# Altium footprint library SOP.PcbLib: 10 footprints
Each footprint in its own frame and in the unit in brackets; x right, y up, seen from the top. Pads: shape width x height; smd on the part's side, far side on the other; paste and mask are expansions set on the pad; w line width, h text height; cw(c..) or ccw(c..) is an arc to the next point about the centre after c.
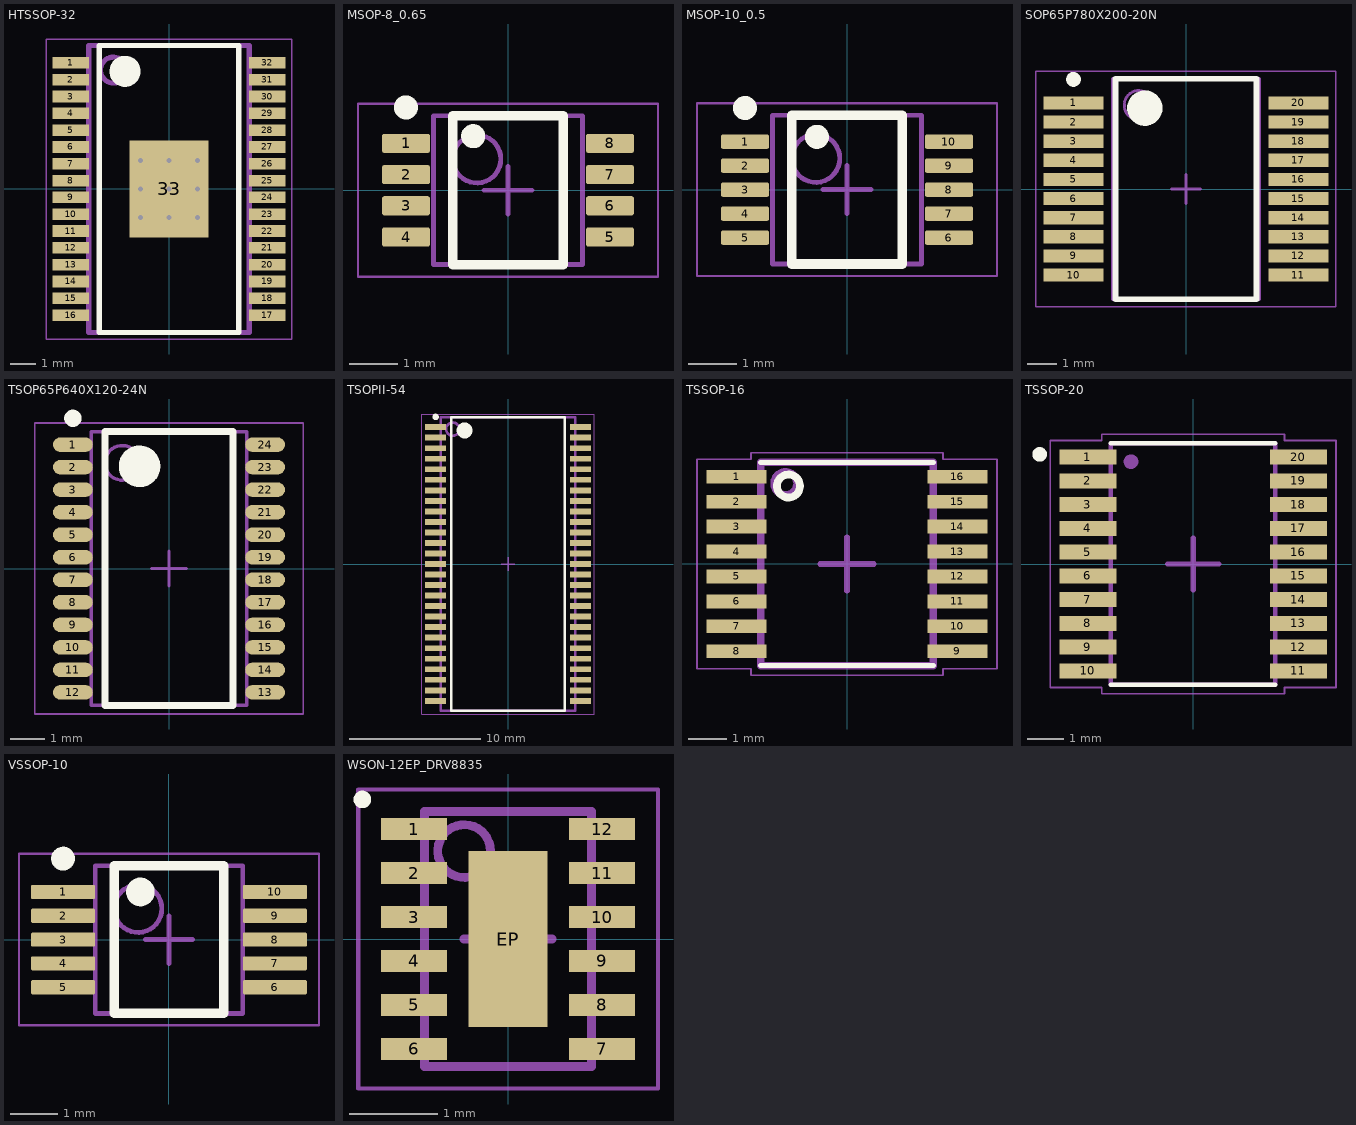
[diagram p0: the footprints below, top view; thin cyan lines are the x and y axes]

## HTSSOP-32 [mm] "TSOP, 32-Leads, Body 11,00x6,10mm, Pitch 0,65mm, Thermal Pad 3,74x3,04mm, IPC Medium Density"
height 1.2
pads (33):
  rect 1.4x0.45 smd: 1(-3.8,4.875) 2(-3.8,4.225) 3(-3.8,3.575) 4(-3.8,2.925) 5(-3.8,2.275) 6(-3.8,1.625) 7(-3.8,0.975) 8(-3.8,0.325) 9(-3.8,-0.325) 10(-3.8,-0.975) 11(-3.8,-1.625) 12(-3.8,-2.275) 13(-3.8,-2.925) 14(-3.8,-3.575) 15(-3.8,-4.225) 16(-3.8,-4.875) 17(3.8,-4.875) 18(3.8,-4.225) 19(3.8,-3.575) 20(3.8,-2.925) 21(3.8,-2.275) 22(3.8,-1.625) 23(3.8,-0.975) 24(3.8,-0.325) 25(3.8,0.325) 26(3.8,0.975) 27(3.8,1.625) 28(3.8,2.275) 29(3.8,2.925) 30(3.8,3.575) 31(3.8,4.225) 32(3.8,4.875)
  rect 3.04x3.74 smd: 33(0,0)
via -1.1,1.1 diameter 0.5 hole 0.2
via 0,1.1 diameter 0.5 hole 0.2
via 1.1,1.1 diameter 0.5 hole 0.2
via -1.1,0 diameter 0.5 hole 0.2
via 0,0 diameter 0.5 hole 0.2
via 1.1,0 diameter 0.5 hole 0.2
via -1.1,-1.1 diameter 0.5 hole 0.2
via 0,-1.1 diameter 0.5 hole 0.2
via 1.1,-1.1 diameter 0.5 hole 0.2
Top Overlay:
  circle w0.6: c-1.7,4.55 r0.3
  lines w0.2: -2.7,-5.55 -2.7,5.55 2.7,5.55 2.7,-5.55 -2.7,-5.55
Top Assembly:
  circle w0.2: c-2.15,4.6 r0.5
  lines w0.2: -3.1,-5.55 -3.1,5.55 3.1,5.55 3.1,-5.55 -3.1,-5.55
Top Courtyard:
  lines w0.05: -4.75,-5.8 -4.75,5.8 4.75,5.8 4.75,-5.8 -4.75,-5.8
  lines w0.1: -0.5,0 0.5,0 ; 0,-0.5 0,0.5
3D body "TSOP65P810X120_HS-33N.step": height 1.2, standoff 0, extent -4.05,-5.55 4.05,5.55

## MSOP-8_0.65 [mm] "MSOP, 8-Leads, Body 3,00x3,00mm, Pitch 0,65mm, IPC Medium Density"
height 0.86
pads (8):
  rrect25% 1x0.4 smd mask+0.05: 1(-2.125,0.975) 2(-2.125,0.325) 3(-2.125,-0.325) 4(-2.125,-0.975) 5(2.125,-0.975) 6(2.125,-0.325) 7(2.125,0.325) 8(2.125,0.975)
Top Overlay:
  circle w0.25: c-2.125,1.725 r0.125
  circle w0.25: c-0.725,1.125 r0.125
  lines w0.2: -1.15,-1.55 -1.15,1.55 1.15,1.55 1.15,-1.55 -1.15,-1.55
Top Assembly:
  circle w0.1: c-0.65,0.65 r0.5
  lines w0.1: -1.55,-1.55 -1.55,1.55 1.55,1.55 1.55,-1.55 -1.55,-1.55
Top Courtyard:
  lines w0.05: -3.125,-1.8 -3.125,1.8 3.125,1.8 3.125,-1.8 -3.125,-1.8
  lines w0.1: -0.5,0 0.5,0 ; 0,-0.5 0,0.5
3D body "MSOP-08 0.65p 3mm.step": height 1, standoff 0, extent -2.45,-1.5 2.45,1.5

## MSOP-10_0.5 [mm] "MSOP, 10-Leads, Body 3,00x3,00mm, Pitch 0,50mm, IPC Medium Density"
height 0.86
pads (10):
  rrect25% 1x0.3 smd mask+0.05: 1(-2.125,1) 2(-2.125,0.5) 3(-2.125,0) 4(-2.125,-0.5) 5(-2.125,-1) 6(2.125,-1) 7(2.125,-0.5) 8(2.125,0) 9(2.125,0.5) 10(2.125,1)
Top Overlay:
  circle w0.25: c-0.625,1.1 r0.125
  circle w0.25: c-2.125,1.7 r0.125
  lines w0.2: -1.15,-1.55 -1.15,1.55 1.15,1.55 1.15,-1.55 -1.15,-1.55
Top Assembly:
  circle w0.1: c-0.65,0.65 r0.5
  lines w0.1: -1.55,-1.55 -1.55,1.55 1.55,1.55 1.55,-1.55 -1.55,-1.55
Top Courtyard:
  lines w0.05: -3.125,-1.8 -3.125,1.8 3.125,1.8 3.125,-1.8 -3.125,-1.8
  lines w0.1: -0.5,0 0.5,0 ; 0,-0.5 0,0.5
3D body "MSOP-10 0.50p 3mm.step": height 1, standoff 0, extent -2.45,-1.5 2.45,1.5

## SOP65P780X200-20N [mm] "SOP, 20-Leads, Body 7,20x5,30mm, Pitch 0,65mm, IPC Medium Density"
height 2
pads (20):
  rect 2.05x0.45 smd mask+0.05: 1(-3.825,2.925) 2(-3.825,2.275) 3(-3.825,1.625) 4(-3.825,0.975) 5(-3.825,0.325) 6(-3.825,-0.325) 7(-3.825,-0.975) 8(-3.825,-1.625) 9(-3.825,-2.275) 10(-3.825,-2.925) 11(3.825,-2.925) 12(3.825,-2.275) 13(3.825,-1.625) 14(3.825,-0.975) 15(3.825,-0.325) 16(3.825,0.325) 17(3.825,0.975) 18(3.825,1.625) 19(3.825,2.275) 20(3.825,2.925)
Top Overlay:
  circle w0.6: c-1.4,2.75 r0.3
  circle w0.25: c-3.825,3.725 r0.125
  lines w0.2: -2.4,-3.75 2.4,-3.75 2.4,3.75 -2.4,3.75 -2.4,-3.75
Top Assembly:
  circle w0.1: c-1.6,2.85 r0.5
  lines w0.1: -2.5,-3.75 2.5,-3.75 2.5,3.75 -2.5,3.75 -2.5,-3.75
Top Courtyard:
  lines w0.05: -5.1,-4 5.1,-4 5.1,4 -5.1,4 -5.1,-4
  lines w0.1: -0.5,0 0.5,0 ; 0,-0.5 0,0.5
3D body "SSOP-20-5_3.step": height 1.2, standoff 0, extent -3.9,-3.64 3.9,3.56

## TSOP65P640X120-24N [mm] "TSOP, 24-Leads, Body 7,80x4,40mm, Pitch 0,65mm, IPC Medium Density"
height 1.2
pads (24):
  oval 1.15x0.42 smd: 1(-2.775,3.575) 2(-2.775,2.925) 3(-2.775,2.275) 4(-2.775,1.625) 5(-2.775,0.975) 6(-2.775,0.325) 7(-2.775,-0.325) 8(-2.775,-0.975) 9(-2.775,-1.625) 10(-2.775,-2.275) 11(-2.775,-2.925) 12(-2.775,-3.575) 13(2.775,-3.575) 14(2.775,-2.925) 15(2.775,-2.275) 16(2.775,-1.625) 17(2.775,-0.975) 18(2.775,-0.325) 19(2.775,0.325) 20(2.775,0.975) 21(2.775,1.625) 22(2.775,2.275) 23(2.775,2.925) 24(2.775,3.575)
Top Overlay:
  circle w0.6: c-0.85,2.95 r0.3
  circle w0.25: c-2.775,4.335 r0.125
  lines w0.2: -1.85,-3.95 1.85,-3.95 1.85,3.95 -1.85,3.95 -1.85,-3.95
Top Assembly:
  circle w0.1: c-1.35,3.05 r0.5
  lines w0.1: -2.25,-3.95 2.25,-3.95 2.25,3.95 -2.25,3.95 -2.25,-3.95
Top Courtyard:
  lines w0.05: -3.875,-4.2 3.875,-4.2 3.875,4.2 -3.875,4.2 -3.875,-4.2
  lines w0.1: -0.5,0 0.5,0 ; 0,-0.5 0,0.5
3D body: height 1.2, standoff 0.15, extent -2.25,-3.95 2.25,3.95

## TSOPII-54 [mm] "SOP, 54-Leads, Body 22.22x10.16mm, Pitch 0.8mm, IPC Medium Density"
height 1.2
pads (54):
  rect 1.6x0.45 smd: 1(-5.5,10.4) 2(-5.5,9.6) 3(-5.5,8.8) 4(-5.5,8) 5(-5.5,7.2) 6(-5.5,6.4) 7(-5.5,5.6) 8(-5.5,4.8) 9(-5.5,4) 10(-5.5,3.2) 11(-5.5,2.4) 12(-5.5,1.6) 13(-5.5,0.8) 14(-5.5,0) 15(-5.5,-0.8) 16(-5.5,-1.6) 17(-5.5,-2.4) 18(-5.5,-3.2) 19(-5.5,-4) 20(-5.5,-4.8) 21(-5.5,-5.6) 22(-5.5,-6.4) 23(-5.5,-7.2) 24(-5.5,-8) 25(-5.5,-8.8) 26(-5.5,-9.6) 27(-5.5,-10.4) 28(5.5,-10.4) 29(5.5,-9.6) 30(5.5,-8.8) 31(5.5,-8) 32(5.5,-7.2) 33(5.5,-6.4) 34(5.5,-5.6) 35(5.5,-4.8) 36(5.5,-4) 37(5.5,-3.2) 38(5.5,-2.4) 39(5.5,-1.6) 40(5.5,-0.8) 41(5.5,0) 42(5.5,0.8) 43(5.5,1.6) 44(5.5,2.4) 45(5.5,3.2) 46(5.5,4) 47(5.5,4.8) 48(5.5,5.6) 49(5.5,6.4) 50(5.5,7.2) 51(5.5,8) 52(5.5,8.8) 53(5.5,9.6) 54(5.5,10.4)
Top Overlay:
  circle w0.6: c-3.3,10.15 r0.3
  circle w0.25: c-5.5,11.175 r0.125
  lines w0.2: -4.3,-11.15 4.3,-11.15 4.3,11.15 -4.3,11.15 -4.3,-11.15
Top Assembly:
  circle w0.2: c-4.2,10.25 r0.5
  lines w0.2: -5.1,-11.15 -5.1,11.15 5.1,11.15 5.1,-11.15 -5.1,-11.15
Top Courtyard:
  lines w0.05: -6.55,-11.4 -6.55,11.4 6.55,11.4 6.55,-11.4 -6.55,-11.4
  lines w0.1: -0.5,0 0.5,0 ; 0,-0.5 0,0.5
3D body "User Library-TSOPII-54.STEP": height 1.25, standoff 0, extent -5.88,-11.11 5.88,11.11

## TSSOP-16 [mm]
height 1.2
pads (16):
  rect 1.56x0.36 smd: 1(-2.88,2.275) 2(-2.88,1.625) 3(-2.88,0.975) 4(-2.88,0.325) 5(-2.88,-0.325) 6(-2.88,-0.975) 7(-2.88,-1.625) 8(-2.88,-2.275) 9(2.88,-2.275) 10(2.88,-1.625) 11(2.88,-0.975) 12(2.88,-0.325) 13(2.88,0.325) 14(2.88,0.975) 15(2.88,1.625) 16(2.88,2.275)
Top Overlay:
  circle w0.2: c-1.524,2.032 r0.3
  lines w0.127: -2.25,-2.65 2.25,-2.65 ; -2.25,2.65 2.25,2.65
Top Assembly:
  circle w0.2: c-1.6,2.1 r0.3
  lines w0.2: -2.25,-2.65 2.25,-2.65 2.25,2.65 -2.25,2.65 -2.25,-2.65
Top Courtyard:
  lines w0.05: -3.91,-2.73 -3.91,2.73 -2.5,2.73 -2.5,2.9 2.5,2.9 2.5,2.73 3.91,2.73 3.91,-2.73 2.5,-2.73 2.5,-2.9 -2.5,-2.9 -2.5,-2.73 -3.91,-2.73
  lines w0.15: -0.7,0 0,0 ; 0,-0.7 0,0 ; 0,0.7 0,0 ; 0.7,0 0,0
3D body "TSSOP-16.stp": height 1.11, standoff 0.01, extent -3.215,-2.549 3.216,2.549

## TSSOP-20 [mm]
height 1.2
pads (20):
  rect 1.56x0.41 smd: 1(-2.88,2.925) 2(-2.88,2.275) 3(-2.88,1.625) 4(-2.88,0.975) 5(-2.88,0.325) 6(-2.88,-0.325) 7(-2.88,-0.975) 8(-2.88,-1.625) 9(-2.88,-2.275) 10(-2.88,-2.925) 11(2.88,-2.925) 12(2.88,-2.275) 13(2.88,-1.625) 14(2.88,-0.975) 15(2.88,-0.325) 16(2.88,0.325) 17(2.88,0.975) 18(2.88,1.625) 19(2.88,2.275) 20(2.88,2.925)
Top Overlay:
  circle w0.2: c-4.2,3 r0.1
  lines w0.127: -2.25,-3.3 2.25,-3.3 ; -2.25,3.3 2.25,3.3
Top Assembly:
  circle w0.2: c-1.7,2.8 r0.1
  lines w0.127: -2.25,-3.3 2.25,-3.3 2.25,3.3 -2.25,3.3 -2.25,-3.3
Top Courtyard:
  lines w0.05: -3.91,-3.38 -2.5,-3.38 -2.5,-3.55 2.5,-3.55 2.5,-3.38 3.91,-3.38 3.91,3.38 2.5,3.38 2.5,3.55 -2.5,3.55 -2.5,3.38 -3.91,3.38 -3.91,-3.38
  lines w0.15: -0.7,0 0,0 ; 0,-0.7 0,0 ; 0,0.7 0,0 ; 0.7,0 0,0
3D body "User Library-TSSOP-20-2.STEP": height 1.2, standoff 0, extent -3.2,-3.25 3.2,3.25

## VSSOP-10 [mm] "TSSOP, 10-Leads, Body 3,00x3,00mm, Pitch 0,50mm, IPC Medium Density"
height 1.2
pads (10):
  rrect25% 1.35x0.3 smd mask+0.05: 1(-2.225,1) 2(-2.225,0.5) 3(-2.225,0) 4(-2.225,-0.5) 5(-2.225,-1) 6(2.225,-1) 7(2.225,-0.5) 8(2.225,0) 9(2.225,0.5) 10(2.225,1)
Top Overlay:
  circle w0.3: c-0.6,1 r0.15
  circle w0.25: c-2.225,1.7 r0.125
  lines w0.2: -1.15,-1.55 1.15,-1.55 1.15,1.55 -1.15,1.55 -1.15,-1.55
Top Assembly:
  circle w0.1: c-0.65,0.65 r0.5
  lines w0.1: -1.55,-1.55 1.55,-1.55 1.55,1.55 -1.55,1.55 -1.55,-1.55
Top Courtyard:
  lines w0.05: -3.15,-1.8 3.15,-1.8 3.15,1.8 -3.15,1.8 -3.15,-1.8
  lines w0.1: -0.5,0 0.5,0 ; 0,-0.5 0,0.5
3D body "VSSOP-10.STEP": height 1.1, standoff 0, extent -2.462,-1.5 2.463,1.5

## WSON-12EP_DRV8835 [mm] "SON, 12-Leads, Body 3,00x2,00mm, Pitch 0,50mm, Thermal Pad 2,00x0,90mm, IPC Medium Density"
height 0.8
pads (13):
  rect 0.75x0.25 smd: 1(-1.07,1.25) 2(-1.07,0.75) 3(-1.07,0.25) 4(-1.07,-0.25) 5(-1.07,-0.75) 6(-1.07,-1.25) 7(1.07,-1.25) 8(1.07,-0.75) 9(1.07,-0.25) 10(1.07,0.25) 11(1.07,0.75) 12(1.07,1.25)
  rect 0.9x2 smd: EP(0,0)
Top Overlay:
  circle w0.1: c-1.657,1.587 r0.05
Top Assembly:
  circle w0.1: c-0.5,1 r0.3
  lines w0.1: -0.95,-1.45 -0.95,1.45 0.95,1.45 0.95,-1.45 -0.95,-1.45
Top Courtyard:
  lines w0.05: -1.705,-1.7 -1.705,1.7 1.705,1.7 1.705,-1.7 -1.705,-1.7
  lines w0.1: -0.5,0 0.5,0 -0.5,0 ; 0,-0.5 0,0.5 0,-0.5
3D body "User Library-DRV8836DSSR.STEP": height 0.8, standoff 0, extent -1.06,-1.55 1.06,1.55